# Altium footprint library SON.PcbLib: 13 footprints
Each footprint in its own frame and in the unit in brackets; x right, y up, seen from the top. Pads: shape width x height; smd on the part's side, far side on the other; paste and mask are expansions set on the pad; w line width, h text height; cw(c..) or ccw(c..) is an arc to the next point about the centre after c.
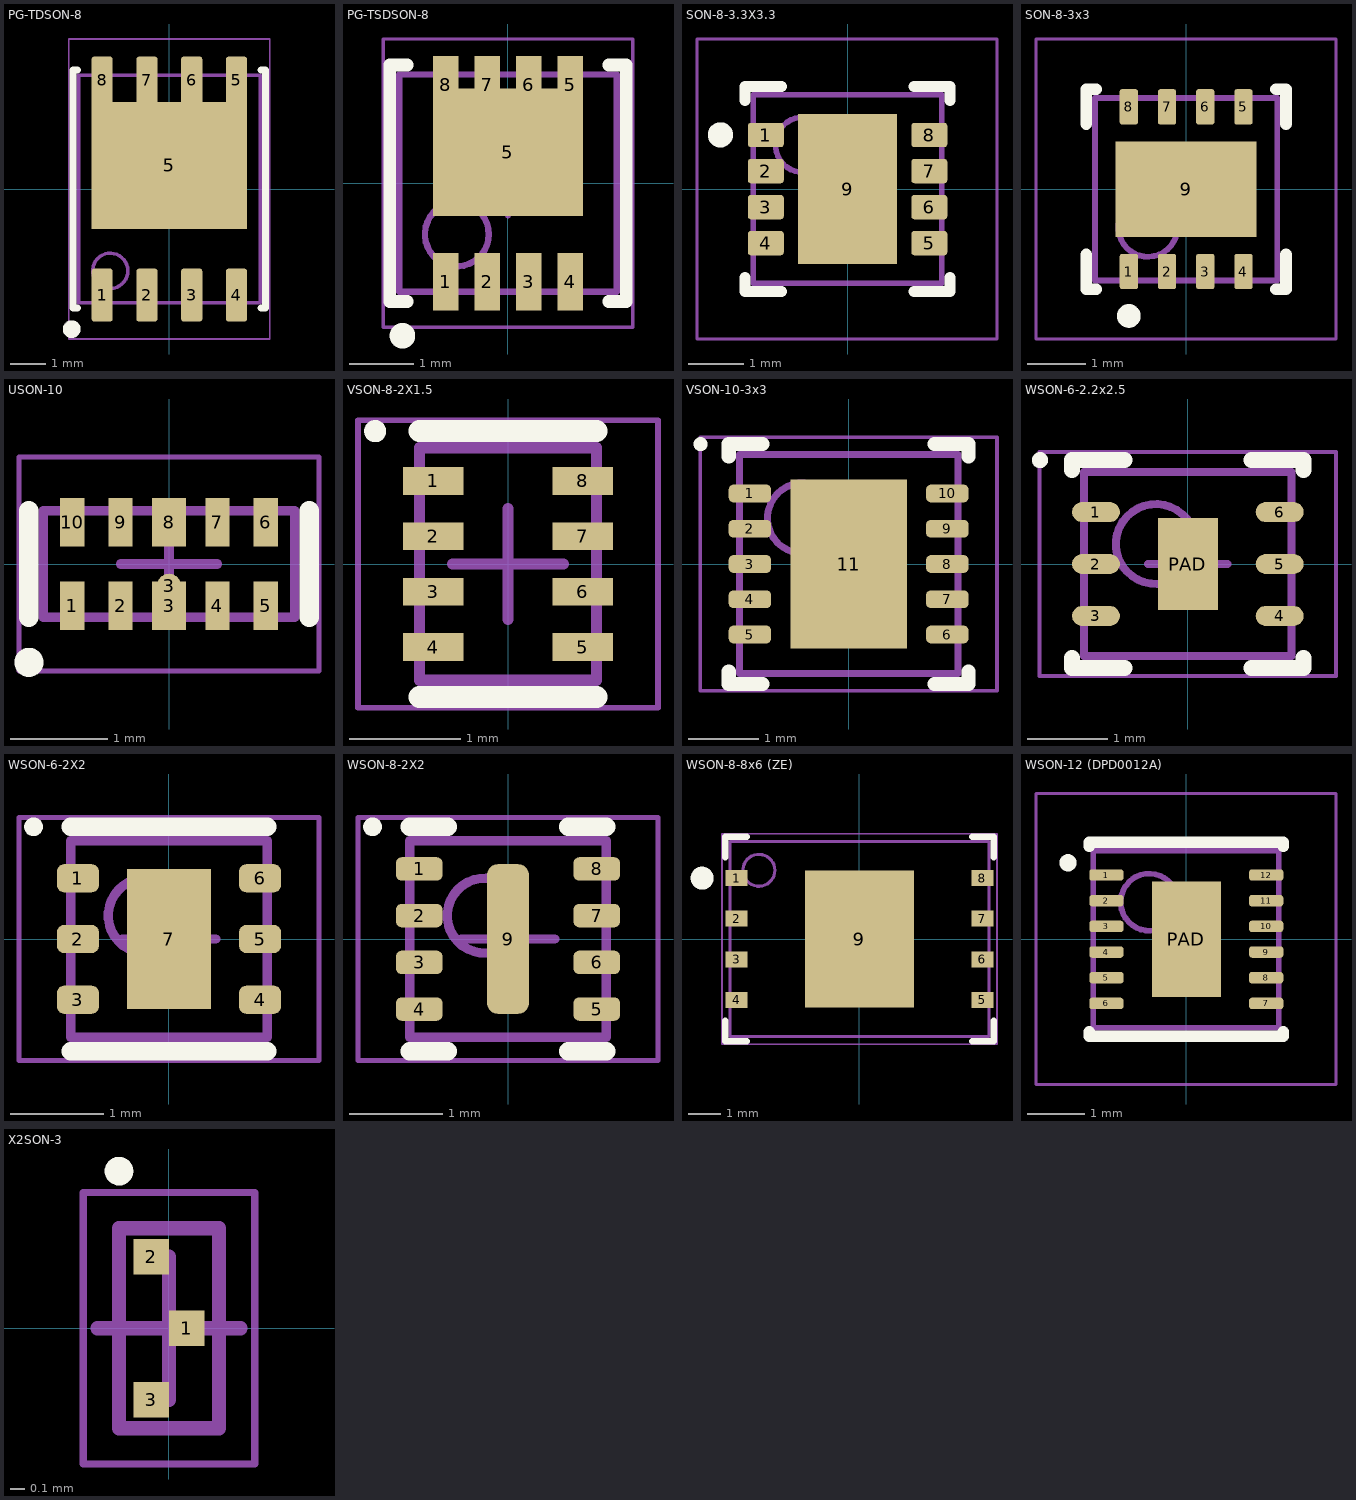
[diagram p0: the footprints below, top view; thin cyan lines are the x and y axes]

## PG-TDSON-8 [mm] "SON, 8-Leads, Body 5.15x6.44mm, Pitch 1.27mm, IPC Medium Density"
height 1
pads (9):
  rrect25% 0.6x1.5 smd: 1(-1.905,-3.008) 2(-0.635,-3.008) 3(0.635,-3.008) 4(1.905,-3.008)
  rect 4.41x3.6 smd: 5(0,0.67)
  rrect25% 0.6x1.35 smd: 5(1.905,3.08) 6(0.635,3.08) 7(-0.635,3.08) 8(-1.905,3.08)
Top Overlay:
  circle w0.3: c-2.768,-3.973 r0.1
  lines w0.2: -2.605,-3.37 -2.725,-3.37 -2.725,3.37 -2.605,3.37 ; 2.605,-3.37 2.725,-3.37 2.725,3.37 2.605,3.37
Mechanical 13:
  circle w0.1: c-1.675,-2.32 r0.5
  lines w0.1: -2.575,-3.22 2.575,-3.22 2.575,3.22 -2.575,3.22 -2.575,-3.22
Mechanical 15:
  lines w0.05: -2.85,-4.253 2.85,-4.253 2.85,4.254 -2.85,4.254 -2.85,-4.253
  lines w0.1: -0.5,0 0.5,0 ; 0,-0.5 0,0.5
3D body "PG-TDSON-8 (5x6).step": height 1, standoff 0, extent -2.575,-3.221 2.575,3.221

## PG-TSDSON-8 [mm] "SON, 8-Leads, Body 3,30x3,30mm, Pitch 0,65mm, Thermal Pad 0,00x0,00mm, IPC Medium Density"
height 1
pads (9):
  rect 0.4x0.9 smd mask+0.05: 1(-0.975,-1.54) 2(-0.325,-1.54) 3(0.325,-1.54) 4(0.975,-1.54) 5(0.975,1.54) 6(0.325,1.54) 7(-0.325,1.54) 8(-0.975,1.54)
  rect 2.35x2 smd mask+0.05: 5(0,0.483)
Top Overlay:
  circle w0.3: c-1.651,-2.388 r0.05
  lines w0.2: -1.575,-1.85 -1.85,-1.85 -1.85,1.85 -1.575,1.85 ; 1.575,-1.85 1.85,-1.85 1.85,1.85 1.575,1.85
Mechanical 13:
  circle w0.1: c-0.8,-0.8 r0.5
  lines w0.1: -1.7,-1.7 1.7,-1.7 1.7,1.7 -1.7,1.7 -1.7,-1.7
Mechanical 15:
  lines w0.05: -1.95,-2.255 1.95,-2.255 1.95,2.255 -1.95,2.255 -1.95,-2.255
  lines w0.1: -0.5,0 0.5,0 ; 0,-0.5 0,0.5
3D body "User Library-PG-TSDSON-8-1.STEP": height 1.11, standoff 0, extent -1.7,-1.7 1.7,1.7

## SON-8-3.3X3.3 [mm] "SON, 8-Leads, Body 3,30x3,30mm, Pitch 0,65mm, Thermal Pad 2,70x1,79mm, IPC Medium Density"
height 1.5
pads (9):
  rrect25% 0.65x0.44 smd mask+0.05: 1(-1.475,0.975) 2(-1.475,0.325) 3(-1.475,-0.325) 4(-1.475,-0.975) 5(1.475,-0.975) 6(1.475,-0.325) 7(1.475,0.325) 8(1.475,0.975)
  rect 1.79x2.7 smd mask+0.05: 9(0,0)
Top Overlay:
  circle w0.254: c-2.294,0.978 r0.1
  lines w0.2: -1.85,-1.595 -1.85,-1.85 -1.195,-1.85 ; -1.85,1.595 -1.85,1.85 -1.195,1.85 ; 1.195,-1.85 1.85,-1.85 1.85,-1.595 ; 1.195,1.85 1.85,1.85 1.85,1.595
Mechanical 13:
  circle w0.1: c-0.8,0.8 r0.5
  lines w0.1: -1.7,-1.7 -1.7,1.7 1.7,1.7 1.7,-1.7 -1.7,-1.7
Mechanical 15:
  lines w0.05: -2.714,-2.704 -2.714,2.707 2.694,2.707 2.694,-2.704 -2.714,-2.704
  lines w0.1: -0.5,0 0.5,0 ; 0,-0.5 0,0.5
3D body "SON-8-3.3X3.3.step": height 1.5, standoff 0, extent -1.71,-1.7 1.71,1.7

## SON-8-3x3 [mm] "VSON, 8-Leads, Body 3,00x3,00mm, Pitch 0,65mm, Thermal Pad 2,40x1,62mm, IPC Medium Density"
height 1
pads (9):
  rrect25% 0.31x0.6 smd mask+0.05: 1(-0.975,-1.4) 2(-0.325,-1.4) 3(0.325,-1.4) 4(0.975,-1.4) 5(0.975,1.4) 6(0.325,1.4) 7(-0.325,1.4) 8(-0.975,1.4)
  rect 2.4x1.62 smd mask+0.05: 9(0,0)
Top Overlay:
  circle w0.2: c-0.974,-2.155 r0.102
  lines w0.2: -1.7,-1.11 -1.7,-1.7 -1.53,-1.7 ; -1.7,1.11 -1.7,1.7 -1.53,1.7 ; 1.53,-1.7 1.7,-1.7 1.7,-1.11 ; 1.53,1.7 1.7,1.7 1.7,1.11
Mechanical 13:
  circle w0.1: c-0.65,-0.65 r0.5
  lines w0.1: -1.55,-1.55 -1.55,1.55 1.55,1.55 1.55,-1.55 -1.55,-1.55
Mechanical 15:
  lines w0.05: -2.553,-2.546 -2.553,2.552 2.548,2.552 2.548,-2.546 -2.553,-2.546
  lines w0.1: -0.5,0 0.5,0 ; 0,-0.5 0,0.5
3D body "SON-8-3x3.step": height 1, standoff 0, extent -1.55,-1.551 1.55,1.551

## USON-10 [mm] "USON, 10-Leads, Body 2,50x1,00mm, Pitch 0,50mm, IPC Medium Density"
height 0.55
pads (11):
  rect 0.25x0.5 smd mask+0.05: 1(-1,-0.43) 2(-0.5,-0.43) 4(0.5,-0.43) 5(1,-0.43) 6(1,0.43) 7(0.5,0.43) 9(-0.5,0.43) 10(-1,0.43)
  rect 0.35x0.5 smd mask+0.05: 3(0,-0.43) 8(0,0.43)
  round 0.25 smd mask+0.05: 3(0,-0.225)
Top Overlay:
  circle w0.2: c-1.448,-1.016 r0.05
  lines w0.2: -1.45,-0.55 -1.45,0.55 ; 1.45,-0.55 1.45,0.55
Mechanical 13:
  lines w0.1: -1.3,-0.55 -1.3,0.55 1.3,0.55 1.3,-0.55 -1.3,-0.55
Mechanical 15:
  lines w0.05: -1.55,-1.105 -1.55,1.105 1.55,1.105 1.55,-1.105 -1.55,-1.105
  lines w0.1: -0.5,0 0.5,0 ; 0,-0.5 0,0.5
3D body "USON-10.step": height 0.55, standoff 0.05, extent -1.3,-0.55 1.3,0.55

## VSON-8-2X1.5 [mm] "SON, 8-Leads, Body 2,00x1,50mm, Pitch 0,50mm, IPC Medium Density"
height 1
pads (8):
  rect 0.55x0.25 smd mask+0.05: 1(-0.675,0.75) 2(-0.675,0.25) 3(-0.675,-0.25) 4(-0.675,-0.75) 5(0.675,-0.75) 6(0.675,-0.25) 7(0.675,0.25) 8(0.675,0.75)
Top Overlay:
  circle w0.1: c-1.2,1.2 r0.05
  lines w0.2: -0.8,-1.2 0.8,-1.2 ; -0.8,1.2 0.8,1.2
Mechanical 13:
  lines w0.1: -0.8,-1.05 -0.8,1.05 0.8,1.05 0.8,-1.05 -0.8,-1.05
Mechanical 15:
  lines w0.05: -1.355,-1.3 -1.355,1.3 1.355,1.3 1.355,-1.3 -1.355,-1.3
  lines w0.1: -0.5,0 0.5,0 ; 0,-0.5 0,0.5
3D body "VSON-8-2X1.5.step": height 1, standoff 0.08, extent -0.8,-1.05 0.8,1.05

## VSON-10-3x3 [mm] "VSON, 10-Leads, Body 3.00x3.00mm, Pitch 0.50mm, Thermal Pad 2.40x1.65mm, IPC Medium Density"
height 1
pads (11):
  rrect50% 0.6x0.25 smd mask+0.05: 1(-1.4,1) 2(-1.4,0.5) 3(-1.4,0) 4(-1.4,-0.5) 5(-1.4,-1) 6(1.4,-1) 7(1.4,-0.5) 8(1.4,0) 9(1.4,0.5) 10(1.4,1)
  rect 1.65x2.4 smd mask+0.05: 11(0,0)
Top Overlay:
  circle w0.1: c-2.1,1.7 r0.05
  lines w0.2: -1.7,-1.525 -1.7,-1.7 -1.22,-1.7 ; -1.7,1.525 -1.7,1.7 -1.22,1.7 ; 1.22,-1.7 1.7,-1.7 1.7,-1.525 ; 1.22,1.7 1.7,1.7 1.7,1.525
Mechanical 13:
  circle w0.1: c-0.65,0.65 r0.5
  lines w0.1: -1.55,-1.55 -1.55,1.55 1.55,1.55 1.55,-1.55 -1.55,-1.55
Mechanical 15:
  lines w0.05: -2.105,-1.8 -2.105,1.8 2.105,1.8 2.105,-1.8 -2.105,-1.8
  lines w0.1: -0.5,0 0.5,0 ; 0,-0.5 0,0.5
3D body "VSON-10-3x3.step": height 1, standoff 0, extent -1.56,-1.55 1.56,1.55

## WSON-6-2.2x2.5 [mm] "WSON, 6-Leads, Body 2.20x2.50mm, Pitch 0.65mm, Thermal Pad 1.15x0.75mm, IPC Medium Density"
height 0.8
pads (7):
  oval 0.6x0.25 smd mask+0.05: 1(-1.15,0.65) 2(-1.15,0) 3(-1.15,-0.65) 4(1.15,-0.65) 5(1.15,0) 6(1.15,0.65)
  rect 0.75x1.15 smd mask+0.05: PAD(0,0)
Top Overlay:
  circle w0.1: c-1.85,1.3 r0.05
  lines w0.2: -1.45,-1.175 -1.45,-1.3 -0.795,-1.3 ; -1.45,1.175 -1.45,1.3 -0.795,1.3 ; 0.795,-1.3 1.45,-1.3 1.45,-1.175 ; 0.795,1.3 1.45,1.3 1.45,1.175
Mechanical 13:
  circle w0.1: c-0.4,0.25 r0.5
  lines w0.1: -1.3,-1.15 1.3,-1.15 1.3,1.15 -1.3,1.15 -1.3,-1.15
Mechanical 15:
  lines w0.05: -1.855,-1.4 1.855,-1.4 1.855,1.4 -1.855,1.4 -1.855,-1.4
  lines w0.1: -0.5,0 0.5,0 ; 0,-0.5 0,0.5
3D body "WSON-6-2.2x2.5.step": height 0.8, standoff 0, extent -1.31,-1.15 1.31,1.15

## WSON-6-2X2 [mm] "WSON, 6-Leads, Body 2.00x2.00mm, Pitch 0.65mm, Thermal Pad 0.00x0.00mm, IPC Medium Density"
height 0.8
pads (7):
  rrect50% 0.45x0.3 smd mask+0.05: 1(-0.975,0.65) 2(-0.975,0) 3(-0.975,-0.65) 4(0.975,-0.65) 5(0.975,0) 6(0.975,0.65)
  rect 0.9x1.5 smd mask+0.05: 7(0,0)
Top Overlay:
  circle w0.1: c-1.45,1.2 r0.05
  lines w0.2: -1.05,-1.2 1.05,-1.2 ; -1.05,1.2 1.05,1.2
Mechanical 13:
  circle w0.1: c-0.25,0.25 r0.4
  lines w0.1: -1.05,-1.05 1.05,-1.05 1.05,1.05 -1.05,1.05 -1.05,-1.05
Mechanical 15:
  lines w0.05: -1.605,-1.3 1.605,-1.3 1.605,1.3 -1.605,1.3 -1.605,-1.3
  lines w0.1: -0.5,0 0.5,0 ; 0,-0.5 0,0.5
3D body "WSON-6-2X2.step": height 0.8, standoff 0, extent -1.13,-1.05 1.13,1.05

## WSON-8-2X2 [mm] "SON, 8-Leads, Body 2.00x2.00mm, Pitch 0.50mm, Thermal Pad 1.60x0.45mm, IPC Medium Density"
height 0.8
pads (9):
  rrect50% 0.5x0.25 smd mask+0.05: 1(-0.95,0.75) 2(-0.95,0.25) 3(-0.95,-0.25) 4(-0.95,-0.75) 5(0.95,-0.75) 6(0.95,-0.25) 7(0.95,0.25) 8(0.95,0.75)
  rrect50% 0.45x1.6 smd mask+0.05: 9(0,0)
Top Overlay:
  circle w0.1: c-1.45,1.2 r0.05
  lines w0.2: -1.05,-1.2 -0.645,-1.2 ; -1.05,1.2 -0.645,1.2 ; 0.645,-1.2 1.05,-1.2 ; 0.645,1.2 1.05,1.2
Mechanical 13:
  circle w0.1: c-0.25,0.25 r0.4
  lines w0.1: -1.05,-1.05 1.05,-1.05 1.05,1.05 -1.05,1.05 -1.05,-1.05
Mechanical 15:
  lines w0.05: -1.605,-1.3 1.605,-1.3 1.605,1.3 -1.605,1.3 -1.605,-1.3
  lines w0.1: -0.5,0 0.5,0 ; 0,-0.5 0,0.5
3D body "WSON-8-2X2.step": height 0.8, standoff 0, extent -1.13,-1.05 1.13,1.05

## WSON-8-8x6 (ZE) [mm] "WSON, 8-Leads, Body 6.00x8.00mm, Pitch 1.27mm, Thermal Pad 4.30x3.40mm, IPC Medium Density"
height 0.8
pads (9):
  rect 0.7x0.5 smd: 1(-3.85,1.905) 2(-3.85,0.635) 3(-3.85,-0.635) 4(-3.85,-1.905) 5(3.85,-1.905) 6(3.85,-0.635) 7(3.85,0.635) 8(3.85,1.905)
  rect 3.4x4.3 smd paste-1.7: 9(0,0)
Top Overlay:
  circle w0.4: c-4.928,1.905 r0.16
  lines w0.2: -4.2,-2.555 -4.2,-3.2 -3.53,-3.2 ; -4.2,2.555 -4.2,3.2 -3.53,3.2 ; 3.53,-3.2 4.2,-3.2 4.2,-2.555 ; 3.53,3.2 4.2,3.2 4.2,2.555
Top Paste:
  rectangle: 0.665,-2.045 1.595,-0.815
  rectangle: 0.665,-0.615 1.595,0.615
  rectangle: 0.665,0.815 1.595,2.045
  rectangle: -0.465,-2.045 0.465,-0.815
  rectangle: -0.465,-0.615 0.465,0.615
  rectangle: -0.465,0.815 0.465,2.045
  rectangle: -1.595,-2.045 -0.665,-0.815
  rectangle: -1.595,-0.615 -0.665,0.615
  rectangle: -1.595,0.815 -0.665,2.045
Mechanical 13:
  circle w0.1: c-3.15,2.15 r0.5
  lines w0.1: -4.05,-3.05 4.05,-3.05 4.05,3.05 -4.05,3.05 -4.05,-3.05
Mechanical 15:
  lines w0.05: -4.305,-3.3 4.305,-3.3 4.305,3.3 -4.305,3.3 -4.305,-3.3
  lines w0.1: -0.5,0 0.5,0 ; 0,-0.5 0,0.5
3D body "WSON-8-8x6 (ZE).step": height 0.8, standoff 0, extent -4.051,-3.05 4.051,3.05

## WSON-12 (DPD0012A) [mm] "WSON, 12-pins, 3x3mm, 0.8mm max height"
height 0.8
pads (13):
  rrect50% 0.6x0.2 smd mask+0.05: 1(-1.4,1.125) 2(-1.4,0.675) 3(-1.4,0.225) 4(-1.4,-0.225) 5(-1.4,-0.675) 6(-1.4,-1.125) 7(1.4,-1.125) 8(1.4,-0.675) 9(1.4,-0.225) 10(1.4,0.225) 11(1.4,0.675) 12(1.4,1.125)
  rect 1.21x2.02 smd mask+0.05: PAD(0,0)
Top Overlay:
  circle w0.2: c-2.073,1.34 r0.05
  lines w0.2: -1.7,-1.625 -1.7,-1.7 1.7,-1.7 1.7,-1.625 ; -1.7,1.625 -1.7,1.7 1.7,1.7 1.7,1.625
Mechanical 13:
  circle w0.1: c-0.65,0.65 r0.5
  lines w0.1: -1.633,-1.55 1.623,-1.55 1.623,1.55 -1.633,1.55 -1.633,-1.55
Mechanical 15:
  lines w0.05: -2.634,-2.549 2.624,-2.549 2.624,2.557 -2.634,2.557 -2.634,-2.549
  lines w0.1: -0.5,0 0.5,0 ; 0,-0.5 0,0.5
3D body "WSON-12.step": height 0.8, standoff 0, extent -1.63,-1.55 1.63,1.55

## X2SON-3 [mm] "X2SON, 3-Leads, Body 1.30x0.60mm, Pitch 0.25mm, IPC Medium Density"
height 0.4
pads (3):
  rect 0.25x0.25 smd mask+0.05: 1(0.125,0) 2(-0.125,0.5) 3(-0.125,-0.5)
Top Overlay:
  circle w0.1: c-0.35,1.1 r0.05
Mechanical 13:
  lines w0.1: -0.35,-0.7 0.35,-0.7 0.35,0.7 -0.35,0.7 -0.35,-0.7
Mechanical 15:
  lines w0.05: -0.6,-0.95 0.6,-0.95 0.6,0.95 -0.6,0.95 -0.6,-0.95
  lines w0.1: -0.5,0 0.5,0 ; 0,-0.5 0,0.5
3D body "X2SON-3.step": height 0.4, standoff 0, extent -0.35,-0.7 0.35,0.7